# Altium schematic symbol library TS300.SchLib: 1 symbol
Pins are listed as number, name and electrical type; pins without a type are passive.

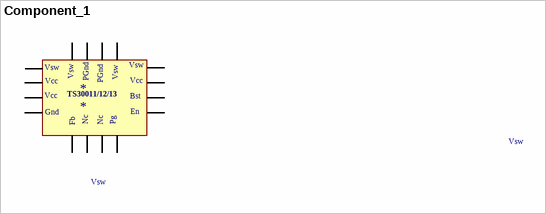
[diagram p0: symbol Component_1]

## Component_1
designator *
pins: 1, 2, 3, 4, 5, 6, 7, 8, 9, 10, 11, 12, 13, 14, 15, 16
text: Vsw; PGnd; Vcc; TS30011/12/13; Bst; Gnd; En; Fb; Nc; Pg